# Altium footprint library opto.PcbLib: 16 footprints
Each footprint in its own frame and in the unit in brackets; x right, y up, seen from the top. Pads: shape width x height; smd on the part's side, far side on the other; paste and mask are expansions set on the pad; w line width, h text height; cw(c..) or ccw(c..) is an arc to the next point about the centre after c.
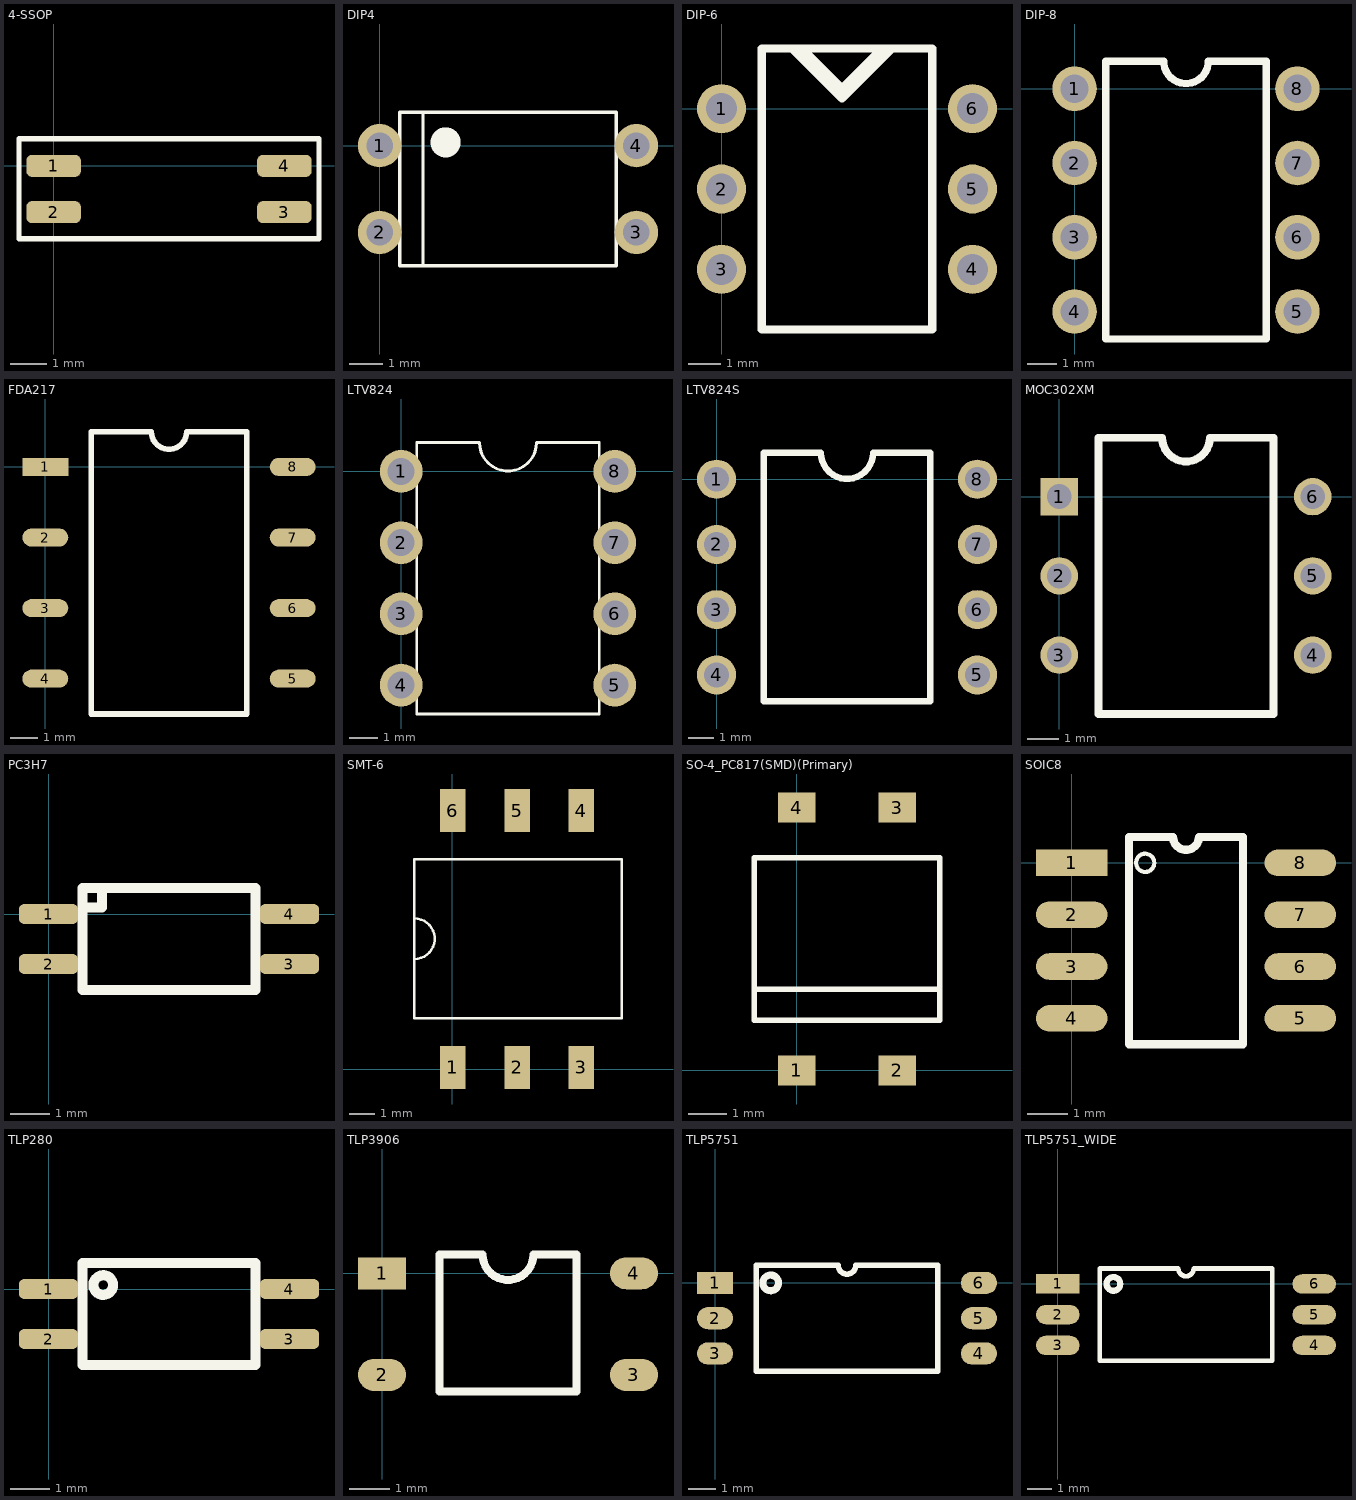
[diagram p0: the footprints below, top view; thin cyan lines are the x and y axes]

## 4-SSOP [mm]
pads (4):
  rrect50% 1.5x0.6 smd: 1(0,0) 2(0,-1.27) 3(6.35,-1.27) 4(6.35,0)
Top Overlay:
  lines w0.15: -0.95,-2 -0.95,0.75 7.3,0.75 7.3,-2 -0.95,-2
3D body "User Library-SSOP-4.step": height 2, standoff -0.02, extent -0.325,-1.995 6.675,0.705

## DIP4 [mm]
pads (4):
  round 1.3 hole 0.8: 1(0,0) 2(0,-2.6) 3(7.7,-2.6) 4(7.7,0)
Top Overlay:
  circle w0.7: c1.98,0.1 r0.1
  lines w0.1: 1.3,-3.6 1.3,1 ; 0.6,-3.6 7.1,-3.6 7.1,1 0.6,1 0.6,-3.6

## DIP-6 [mil]
pads (6):
  round 60 hole 38: 1(0,0) 2(0,-98.27) 3(0,-196.54) 4(307.09,-196.54) 5(307.09,-98.27) 6(307.09,0)
Top Overlay:
  lines w10: 85.98,73.7 147.4,12.28 208.82,73.7 ; 98.27,73.7 147.4,24.57 196.54,73.7 ; 49.13,-270.24 49.13,73.7 257.95,73.7 257.95,-270.24 49.13,-270.24

## DIP-8 [mil]
pads (8):
  round 60 hole 38: 1(0,0) 2(0,-100) 3(0,-200) 4(0,-300) 5(300,-300) 6(300,-200) 7(300,-100) 8(300,0)
Top Overlay:
  lines w10: 41.73,-337.01 41.73,37.01 120,37.01 ccw(c150,37.01) 180,37.01 258.27,37.01 258.27,-337.01 41.73,-337.01
3D body "CircuitWorks-DIP8.step": height 165, standoff -105, extent -5,-374.99 305,75.01

## FDA217 [mm]
pads (8):
  rect 1.65x0.65 smd: 1(0,0)
  oval 1.65x0.65 smd: 2(0,-2.54) 3(0,-5.08) 4(0,-7.62) 5(8.9,-7.62) 6(8.9,-5.08) 7(8.9,-2.54) 8(8.9,0)
Top Overlay:
  lines w0.2: 1.66,-8.89 1.66,1.27 3.815,1.27 ccw(c4.45,1.27) 5.085,1.27 7.24,1.27 7.24,-8.89 1.66,-8.89

## LTV824 [mil]
pads (8):
  round 60 hole 38: 1(0,0) 2(0,-100) 3(0,-200) 4(0,-300) 5(300,-300) 6(300,-200) 7(300,-100) 8(300,0)
Top Overlay:
  lines w3.94: 22.05,-340.55 277.95,-340.55 277.95,40.55 190,40.55 cw(c150,40.55) 110,40.55 22.05,40.55 22.05,-340.55

## LTV824S [mil]
pads (8):
  round 60 hole 38: 1(0,0) 2(0,-100) 3(0,-200) 4(0,-300) 5(400,-300) 6(400,-200) 7(400,-100) 8(400,0)
Top Overlay:
  lines w10: 72.05,-340.55 72.05,40.55 160,40.55 ccw(c200,40.55) 240,40.55 327.95,40.55 327.95,-340.55 72.05,-340.55

## MOC302XM [mm]
pads (6):
  rect 1.2x1.2 hole 0.8 unplated: 1(0,0)
  round 1.2 hole 0.8 unplated: 2(0,-2.54) 3(0,-5.08) 4(8.13,-5.08) 5(8.13,-2.54) 6(8.13,0)
Top Overlay:
  lines w0.254: 1.265,-6.97 6.865,-6.97 6.865,1.89 4.827,1.89 cw(c4.065,1.89) 3.303,1.89 1.265,1.89 1.265,-6.97

## PC3H7 [mm]
pads (4):
  rrect50% 1.5x0.5 smd: 1(0,0) 2(0,-1.27) 3(6.12,-1.27) 4(6.12,0)
Top Overlay:
  lines w0.254: 0.86,0.165 1.36,0.165 1.36,0.665 ; 0.86,-1.935 0.86,0.665 5.26,0.665 5.26,-1.935 0.86,-1.935

## SMT-6 [mm]
pads (6):
  rect 1x1.7 smd: 1(0.02,0.06) 2(2.56,0.06) 3(5.1,0.06) 4(5.1,10.22) 5(2.56,10.22) 6(0.02,10.22)
Top Overlay:
  lines w0.1: -1.5,4.348 ccw(c-1.5,5.15) -1.5,5.952 ; -1.5,2 -1.5,8.3 6.7,8.3 6.7,2 -1.5,2

## SO-4_PC817(SMD)(Primary) [mm]
pads (4):
  rect 0.96x0.78 smd: 1(0,0) 2(2.6,0) 3(2.6,6.8) 4(0,6.8)
Top Overlay:
  lines w0.15: -1.1,2.1 3.7,2.1 ; -1.1,1.3 -1.1,5.5 3.7,5.5 3.7,1.3 -1.1,1.3

## SOIC8 [mm]
pads (8):
  rect 1.75x0.65 smd: 1(0,0)
  oval 1.75x0.65 smd: 2(0,-1.27) 3(0,-2.54) 4(0,-3.81) 5(5.6,-3.81) 6(5.6,-2.54) 7(5.6,-1.27) 8(5.6,0)
Top Overlay:
  circle w0.1: c1.8,0 r0.224
  lines w0.2: 1.4,-4.445 4.2,-4.445 4.2,0.635 3.117,0.635 cw(c2.8,0.635) 2.482,0.635 1.4,0.635 1.4,-4.445
3D body "User Library-SOIC-8-1.step": height 1.75, standoff 0, extent -0.2,-4.353 5.8,0.547

## TLP280 [mm]
pads (4):
  rrect50% 1.5x0.5 smd: 1(0,0) 2(0,-1.27) 3(6.12,-1.27) 4(6.12,0)
Top Overlay:
  circle w0.254: c1.39,0.1 r0.25
  lines w0.254: 0.86,-1.935 5.26,-1.935 5.26,0.665 0.86,0.665 0.86,-1.935

## TLP3906 [mm]
pads (4):
  rect 1.2x0.8 smd: 1(0,0)
  oval 1.2x0.8 smd: 2(0,-2.54) 3(6.3,-2.54) 4(6.3,0)
Top Overlay:
  lines w0.2: 1.435,-2.952 4.865,-2.952 4.865,0.47 3.785,0.47 cw(c3.15,0.47) 2.515,0.47 1.435,0.47 1.435,-2.952
3D body "TLP3906.step": height 3.17, standoff 0, extent -0.6,-3.65 6.9,0.93

## TLP5751 [mm]
pads (6):
  rect 1.3x0.8 smd: 1(0,0)
  oval 1.3x0.8 smd: 2(0,-1.27) 3(0,-2.54) 4(9.5,-2.54) 5(9.5,-1.27) 6(9.5,0)
Top Overlay:
  circle w0.254: c2,0 r0.283
  lines w0.2: 1.485,-3.175 1.485,0.635 4.432,0.635 ccw(c4.75,0.635) 5.067,0.635 8.015,0.635 8.015,-3.175 1.485,-3.175

## TLP5751_WIDE [mm]
pads (6):
  rect 1.8x0.8 smd: 1(0,0)
  oval 1.8x0.8 smd: 2(0,-1.27) 3(0,-2.54) 4(10.6,-2.54) 5(10.6,-1.27) 6(10.6,0)
Top Overlay:
  circle w0.254: c2.3,0 r0.283
  lines w0.2: 1.735,-3.175 8.865,-3.175 8.865,0.635 5.617,0.635 cw(c5.3,0.635) 4.982,0.635 1.735,0.635 1.735,-3.175